# Altium footprint library 10067847-001RLF.PcbLib: 1 footprints
Each footprint in its own frame and in the unit in brackets; x right, y up, seen from the top. Pads: shape width x height; smd on the part's side, far side on the other; paste and mask are expansions set on the pad; w line width, h text height; cw(c..) or ccw(c..) is an arc to the next point about the centre after c.
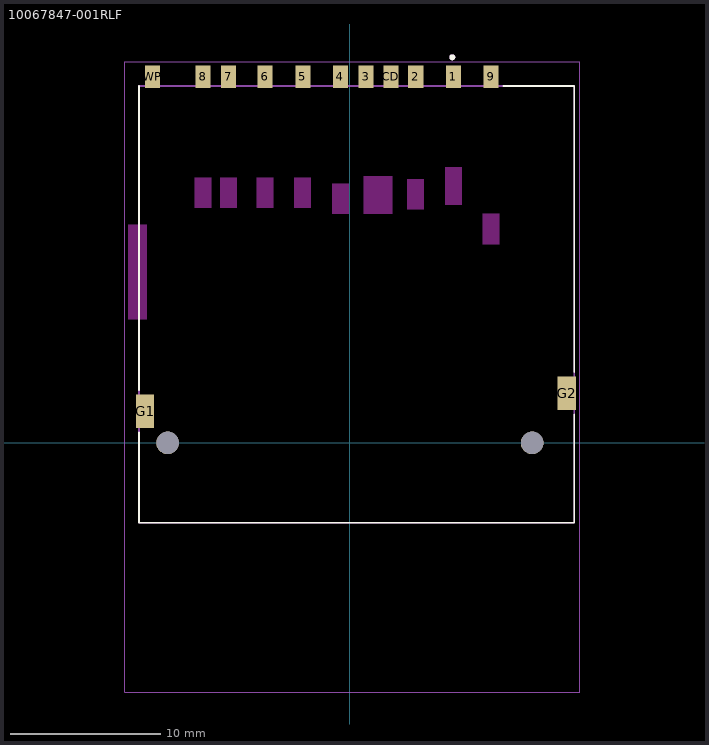
[diagram p0: the footprint, top view; thin cyan lines are the x and y axes]

## 10067847-001RLF [mm]
height 2.8
pads (15):
  rect 1x1.5 smd: 1(6.875,24.3) 2(4.375,24.3) 3(1.075,24.3) 4(-0.625,24.3) 5(-3.125,24.3) 6(-5.625,24.3) 7(-8.05,24.3) 8(-9.75,24.3) 9(9.375,24.3) CD(2.725,24.3) WP(-13.1,24.3)
  rect 1.2x2.2 smd: G1(-13.6,2.1) G2(14.4,3.3)
  round 1.5 hole 1.5 unplated: ""(-12.1,0) ""(12.1,0)
Top Overlay:
  circle w0.2: c6.8,25.6 r0.1
  lines w0.127: -14,0.68 -14,-5.3 14.9,-5.3 14.9,1.88 ; -14,3.52 -14,23.7 ; 10.195,23.7 14.9,23.7 14.9,4.72
Keep-Out Layer:
  region: -9.21,15.6 -10.31,15.6 -10.31,17.6 -9.21,17.6
  region: -7.51,15.6 -8.61,15.6 -8.61,17.6 -7.51,17.6
  region: -5.08,15.6 -6.18,15.6 -6.18,17.6 -5.08,17.6
  region: -0.08,15.2 -1.18,15.2 -1.18,17.2 -0.08,17.2
  region: -2.58,15.6 -3.68,15.6 -3.68,17.6 -2.58,17.6
  region: 2.82,15.2 0.92,15.2 0.92,17.7 2.82,17.7
  region: 9.92,13.2 8.82,13.2 8.82,15.2 9.92,15.2
  region: 7.42,15.8 6.32,15.8 6.32,18.3 7.42,18.3
  region: 4.92,15.5 3.82,15.5 3.82,17.5 4.92,17.5
  region: -13.5,8.2 -14.7,8.2 -14.7,14.5 -13.5,14.5
Assembly Top:
  circle w0.2: c6.8,25.6 r0.1
  lines w0.127: -14,-5.3 14.9,-5.3 14.9,23.7 -14,23.7 -14,-5.3
Courtyard Top:
  lines w0.05: -14.95,-16.55 15.25,-16.55 15.25,25.3 -14.95,25.3 -14.95,-16.55
3D body "step_temp.STEP": height 2.9, standoff -0.7, extent -13.844,-5.505 14.606,24.745